# EAGLE library part SN75176B (library uchile_robotics_eagle_lib)
SN75176B Datasheet: http://www.ti.com/lit/ds/symlink/sn75176b.pdf
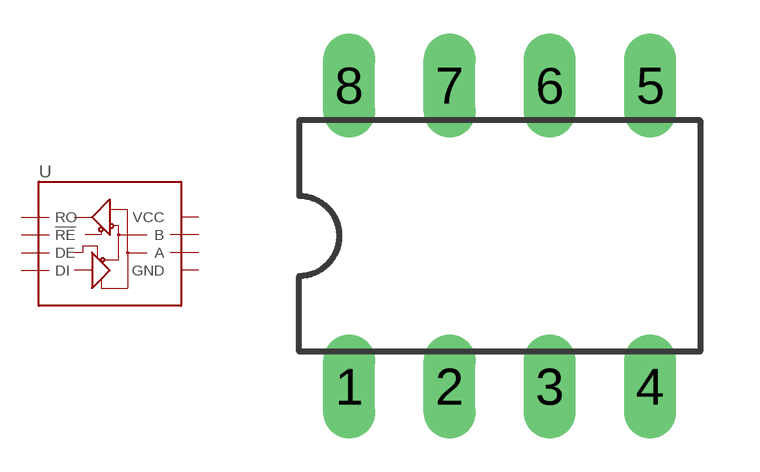
[diagram p4: symbol with the pads of DIL08; footprint DIL08]

Designator prefix -

## SN75176B  [DIL08]
1  RO
2  !RE
3  DE
4  DI
5  GND
6  A
7  B
8  VCC

## Footprint DIL08 (pad centres in mm)
Dual In Line Package
drill 0.813 long: 1 -3.81,-3.81; 2 -1.27,-3.81; 3 1.27,-3.81; 4 3.81,-3.81; 5 3.81,3.81; 6 1.27,3.81; 7 -1.27,3.81; 8 -3.81,3.81